# Altium footprint library SMA.PcbLib: 9 footprints
Each footprint in its own frame and in the unit in brackets; x right, y up, seen from the top. Pads: shape width x height; smd on the part's side, far side on the other; paste and mask are expansions set on the pad; w line width, h text height; cw(c..) or ccw(c..) is an arc to the next point about the centre after c.
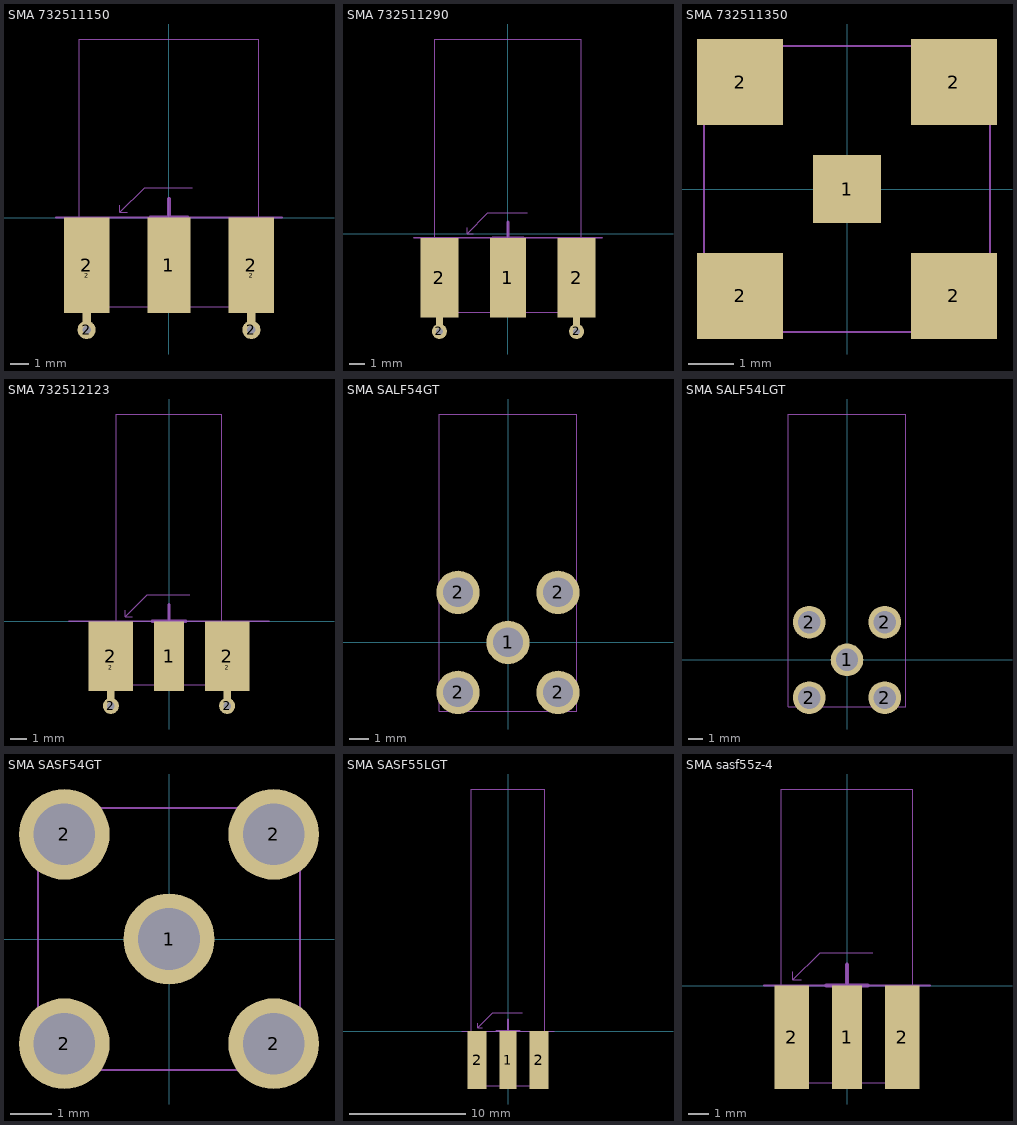
[diagram p0: the footprints below, top view; thin cyan lines are the x and y axes]

## SMA 732511150 [mm] "SMA 贴片连接器 适用1.6mm板厚"
height 4.5
pads (7):
  rect 2.29x5.08 smd: 1(0,-2.54)
  round 0.97 hole 0.46 unplated: 2(-4.38,-5.97) 2(4.38,-5.97)
  rect 0.46x5.08 smd: 2(-4.38,-3.1) 2(4.38,-3.1)
  rect 2.41x5.08 smd: 2(-4.38,-2.54) 2(4.38,-2.54)
Mechanical 1:
  lines w0.05: -2.616,0.66 -2.616,0.279 ; -2.21,0.279 -2.616,0.279 ; 1.232,1.595 -1.301,1.595 -2.616,0.279
  lines w0.1: -6,0 6,0
  text "PCB ENDG" at -1.168,1.727 h0.5
Mechanical 13:
  lines w0.05: -4.765,-4.75 4.765,-4.75 4.765,9.495 -4.765,9.495 -4.765,-4.75
Mechanical 15:
  lines w0.2: -1,0 1,0 ; 0,-1 0,1
3D body: height 4.45, standoff -3.55, extent -4.765,-4.75 4.765,9.495

## SMA 732511290 [mm] "SMA 贴片连接器 适用1.6mm板厚"
height 4.5
pads (7):
  rect 2.29x5.08 smd: 1(0,-2.794)
  round 0.97 hole 0.46 unplated: 2(-4.38,-6.224) 2(4.38,-6.224)
  rect 0.46x5.08 smd: 2(-4.38,-3.354) 2(4.38,-3.354)
  rect 2.41x5.08 smd: 2(-4.38,-2.794) 2(4.38,-2.794)
Mechanical 1:
  lines w0.05: -2.616,0.406 -2.616,0.025 ; -2.21,0.025 -2.616,0.025 ; 1.232,1.341 -1.301,1.341 -2.616,0.025
  lines w0.1: -6,-0.254 6,-0.254
  text "PCB ENDG" at -1.168,1.473 h0.5
Mechanical 13:
  lines w0.05: -4.675,-5.004 -4.675,12.441 4.675,12.441 4.675,-5.004 -4.675,-5.004
Mechanical 15:
  lines w0.2: -1,-0.254 1,-0.254 ; 0,-1.254 0,0.746
3D body: height 4.42, standoff -3.51, extent -4.675,-5.004 4.675,12.441

## SMA 732511350 [mm] "SMA 180度连接器"
height 9.6
pads (5):
  rect 1.52x1.52 smd: 1(0,0)
  rect 1.91x1.91 smd: 2(-2.375,-2.375) 2(-2.375,2.375) 2(2.375,-2.375) 2(2.375,2.375)
Mechanical 13:
  lines w0.05: -3.175,-3.175 3.175,-3.175 3.175,3.175 -3.175,3.175 -3.175,-3.175
3D body: height 10.08, standoff 0.04, extent -3.175,-3.175 3.175,3.175

## SMA 732512123 [mm] "SMA 贴片连接器 适用1.6mm板厚"
height 4.5
pads (7):
  rect 1.78x4.19 smd: 1(0,-2.1)
  round 0.97 hole 0.46 unplated: 2(-3.49,-5.08) 2(3.49,-5.08)
  rect 0.46x4 smd: 2(-3.49,-2.8) 2(3.49,-2.8)
  rect 2.665x4.19 smd: 2(-3.49,-2.1) 2(3.49,-2.1)
Mechanical 1:
  lines w0.05: -2.616,0.66 -2.616,0.279 ; -2.21,0.279 -2.616,0.279 ; 1.232,1.595 -1.301,1.595 -2.616,0.279
  lines w0.1: -6,0 6,0
  text "PCB ENDG" at -1.168,1.727 h0.5
Mechanical 13:
  lines w0.05: -3.175,-3.81 -3.175,12.445 3.175,12.445 3.175,-3.81 -3.175,-3.81
Mechanical 15:
  lines w0.2: -1,0 1,0 ; 0,-1 0,1
3D body: height 3.83, standoff -2.52, extent -3.175,-3.81 3.175,12.445

## SMA SALF54GT [mm] "SMA 90度连接器"
height 9.86
pads (5):
  round 2.2 hole 1.5 unplated: 1(0,0) 2(-2.54,-2.54) 2(-2.54,2.54) 2(2.54,-2.54) 2(2.54,2.54)
Mechanical 13:
  lines w0.05: -3.5,-3.5 -3.5,11.6 3.5,11.6 3.5,-3.5 -3.5,-3.5
3D body: height 9.41, standoff -3.94, extent -3.5,-3.5 3.5,11.6

## SMA SALF54LGT [mm] "SMA 90度连接器"
height 10.45
pads (5):
  round 2.2 hole 1.5 unplated: 1(0,0) 2(-2.54,-2.54) 2(-2.54,2.54) 2(2.54,-2.54) 2(2.54,2.54)
Mechanical 13:
  lines w0.05: -3.96,-3.15 -3.96,16.54 3.96,16.54 3.96,-3.15 -3.96,-3.15
3D body: height 10.45, standoff -3.93, extent -3.96,-3.15 3.96,16.54

## SMA SASF54GT [mm] "SMA 180度连接器"
height 9.6
pads (5):
  round 2.2 hole 1.5 unplated: 1(0,0) 2(-2.54,-2.54) 2(-2.54,2.54) 2(2.54,-2.54) 2(2.54,2.54)
Mechanical 13:
  lines w0.05: -3.175,-3.175 3.175,-3.175 3.175,3.175 -3.175,3.175 -3.175,-3.175
3D body: height 9.6, standoff -3.95, extent -3.175,-3.175 3.175,3.175

## SMA SASF55LGT [mm] "SMA 贴片连接器 适用1.6mm板厚"
height 4.5
pads (3):
  rect 1.47x5 smd: 1(0,-2.5)
  rect 1.67x5 smd: 2(-2.675,-2.5) 2(2.675,-2.5)
Mechanical 1:
  lines w0.05: -2.616,0.66 -2.616,0.279 ; -2.21,0.279 -2.616,0.279 ; 1.232,1.595 -1.301,1.595 -2.616,0.279
  lines w0.1: -4,0 4,0
  text "PCB ENDG" at -1.168,1.727 h0.5
Mechanical 13:
  lines w0.05: -3.175,-4.7 3.175,-4.7 3.175,20.895 -3.175,20.895 -3.175,-4.7
Mechanical 15:
  lines w0.2: -1,0 1,0 ; 0,-1 0,1
3D body: height 3.83, standoff -2.52, extent -3.175,-4.7 3.175,20.895

## SMA sasf55z-4 [mm] "SMA 贴片连接器 适用1.0mm或1.2mm板厚"
height 4.5
pads (3):
  rect 1.47x5 smd: 1(0,-2.5)
  rect 1.67x5 smd: 2(-2.675,-2.5) 2(2.675,-2.5)
Mechanical 1:
  lines w0.05: -2.616,0.66 -2.616,0.279 ; -2.21,0.279 -2.616,0.279 ; 1.232,1.595 -1.301,1.595 -2.616,0.279
  lines w0.1: -4,0 4,0
  text "PCB ENDG" at -1.168,1.727 h0.5
Mechanical 13:
  lines w0.05: -3.175,-4.7 -3.175,9.495 3.175,9.495 3.175,-4.7 -3.175,-4.7
Mechanical 15:
  lines w0.2: -1,0 1,0 ; 0,-1 0,1
3D body: height 3.57, standoff -2.78, extent -3.175,-4.7 3.175,9.495